# EAGLE library part MAX31856_BREAKOUT (library LEAF_Components)
Socket for MAX31856 Breakout from Adafruit Adafruit Board <https://www.adafruit.com/product/3263>
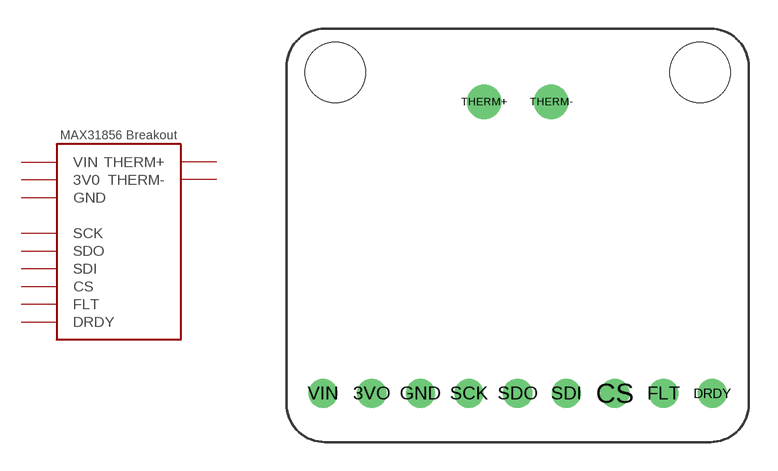
[diagram p0: symbol with the pads of MAX31856_BREAKOUT; footprint MAX31856_BREAKOUT]

Designator prefix XU

## MAX31856_BREAKOUT  [MAX31856_BREAKOUT]
3VO  3V0  pwr
CS  CS  in
DRDY  DRDY  out
FLT  FLT  out
GND  GND  pwr
SCK  SCK  in
SDI  SDI  in
SDO  SDO  out
THERM+  THERM+  in
THERM-  THERM-  in
VIN  VIN  pwr

## Footprint MAX31856_BREAKOUT (pad centres in mm)
drill 1.016: 3VO -7.62,0; CS 5.08,0; DRDY 10.16,0; FLT 7.62,0; GND -5.08,0; SCK -2.54,0; SDI 2.54,0; SDO 0,0; VIN -10.16,0
drill 1.2: THERM+ -1.75,15.24; THERM- 1.75,15.24
hole 3.175 at -9.525,16.764
hole 3.175 at 9.525,16.764